# Altium schematic symbol library 150060VS75000.SchLib: 1 symbol
Pins are listed as number, name and electrical type; pins without a type are passive.

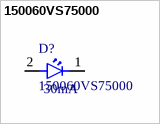
[diagram p0: symbol 150060VS75000]

## 150060VS75000
designator D?  Max Current: 30mA
Standard LEDs - SMD WL-SMCW SMDMono TpVw Waterclr 0603 BrtGrn; Manufacturer: Wurth Elektronik; Color: GREEN; Max Temp: 85; Min Temp: -40; Forward Voltage: 2V; PN: 150060VS75000; Package: 0603; Footprint: 150060VS75000; ComponentLink1Description: Datasheet; ComponentLink1URL: https://www.mouser.ca/datasheet/2/445/150060VS75000-1714627.pdf; Supplier 1: Mouser; Supplier Part Number 1: 710-150060VS75000
footprint LED_0603_Wurth
pins: 1, 2